# Altium footprint library PCB_TCC.PcbLib: 37 footprints (part 3 of 3)
Each footprint in its own frame and in the unit in brackets; x right, y up, seen from the top. Pads: shape width x height; smd on the part's side, far side on the other; paste and mask are expansions set on the pad; w line width, h text height; cw(c..) or ccw(c..) is an arc to the next point about the centre after c.
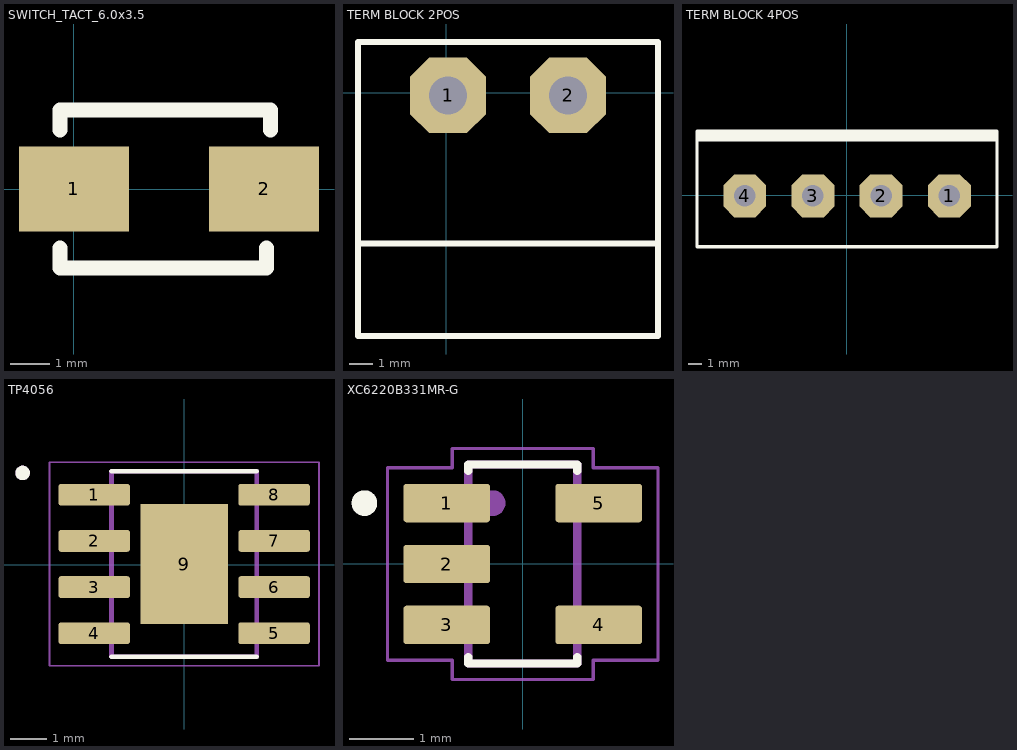
[diagram p2: the footprints below, top view; thin cyan lines are the x and y axes]

## SWITCH_TACT_6.0x3.5 [mm]
pads (2):
  rect 2.795x2.16 smd: 1(-0.001,0.002) 2(4.839,0.002)
Top Overlay:
  lines w0.381: -0.36,-1.496 -0.36,-2.004 4.899,-2.004 4.899,-1.496 ; -0.36,1.499 -0.36,2.007 4.999,2.007 4.999,1.499
3D body "PTS820J25KP.stp": height 2.5, standoff -0.5, extent 0,-1.349 4.4,1.552

## TERM BLOCK 2POS [mil]
pads (2):
  oct 126x126 hole 63: 1(2.65,-4.04) 2(202.65,-4.04)
Top Overlay:
  lines w10: -147.35,-251.19 348.52,-251.19 ; -147.35,-405.04 352.65,-405.04 352.65,84.96 -147.35,84.96 -147.35,-405.04
3D body "1757242.stp": height 338.58, standoff -137.8, extent -136.72,-397.57 342.02,74.96

## TERM BLOCK 4POS [mil]
pads (4):
  oct 126x126 hole 63: 1(300.1,-1.19) 2(100.1,-1.19) 3(-99.9,-1.19) 4(-299.9,-1.19)
Top Overlay:
  region: 440.1,158.81 -439.9,158.81 -439.9,188.81 440.1,188.81
  lines w10: -439.9,-151.19 -439.9,188.81 440.1,188.81 440.1,-151.19 -439.9,-151.19
3D body "1755752.SLDPRT": height 472.44, standoff -153.54, extent -439.27,-144.77 439.47,193.81

## TP4056 [mm]
pads (9):
  rrect25% 1.97x0.6 smd: 1(-2.483,1.921) 2(-2.483,0.651) 3(-2.483,-0.619) 4(-2.483,-1.889) 5(2.467,-1.889) 6(2.467,-0.619) 7(2.467,0.651) 8(2.467,1.921)
  rect 2.413x3.302 smd paste-3: 9(-0.008,0.016)
Top Overlay:
  circle w0.2: c-4.453,2.521 r0.1
  lines w0.127: -2.008,-2.534 1.992,-2.534 ; -2.008,2.566 1.992,2.566
Top Paste:
  region: 0.637,-0.804 -0.653,-0.804 -0.653,0.836 0.637,0.836
Mechanical 13:
  circle w0.2: c-4.453,2.521 r0.1
  lines w0.127: -2.008,-2.534 -2.008,2.566 1.992,2.566 1.992,-2.534 -2.008,-2.534
Mechanical 15:
  lines w0.05: -3.718,-2.784 -3.718,2.816 3.702,2.816 3.702,-2.784 -3.718,-2.784
3D body "step_temp.STEP": height 1.75, standoff 0, extent -3.008,-2.434 2.992,2.466

## XC6220B331MR-G [mm]
pads (5):
  rrect15% 1.35x0.6 smd: 1(-1.187,0.948) 2(-1.187,-0.002) 3(-1.187,-0.952) 4(1.183,-0.952) 5(1.183,0.948)
Top Overlay:
  circle w0.2: c-2.471,0.948 r0.1
  lines w0.127: -0.852,-1.452 -0.852,-1.552 0.848,-1.552 0.848,-1.452 ; -0.852,1.448 -0.852,1.548 0.848,1.548 0.848,1.448
Mechanical 13:
  circle w0.2: c-0.471,0.948 r0.1
  lines w0.127: -0.852,-1.552 -0.852,1.548 0.848,1.548 0.848,-1.552 -0.852,-1.552
Mechanical 15:
  lines w0.05: -2.112,-1.502 -1.102,-1.502 -1.102,-1.802 1.098,-1.802 1.098,-1.502 2.108,-1.502 2.108,1.498 1.098,1.498 1.098,1.798 -1.102,1.798 -1.102,1.498 -2.112,1.498 -2.112,-1.502
3D body "AP2112K-3.3TRG1--3DModel-STEP-1.STEP": height 1.4, standoff 0, extent -1.4,-1.5 1.4,1.5